# Altium footprint library RGB_Controller.PcbLib: 10 footprints
Each footprint in its own frame and in the unit in brackets; x right, y up, seen from the top. Pads: shape width x height; smd on the part's side, far side on the other; paste and mask are expansions set on the pad; w line width, h text height; cw(c..) or ccw(c..) is an arc to the next point about the centre after c.
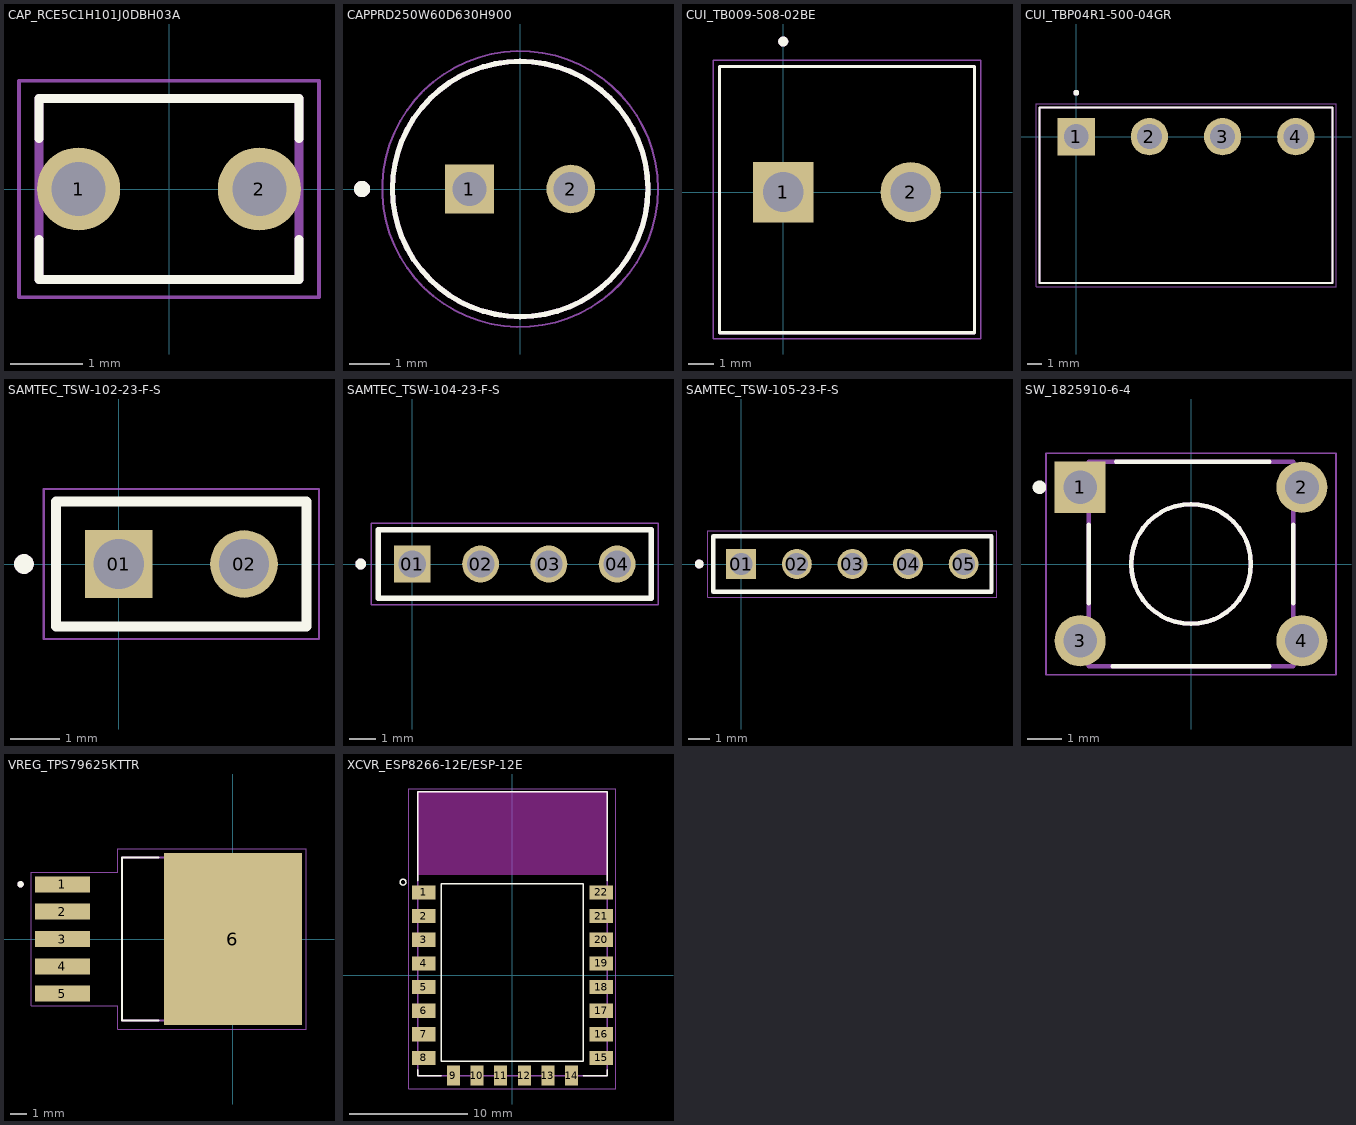
[diagram p0: the footprints below, top view; thin cyan lines are the x and y axes]

## CAP_RCE5C1H101J0DBH03A [mm]
pads (2):
  round 1.15 hole 0.75: 1(-1.25,0) 2(1.25,0)
Top Overlay:
  lines w0.127: -1.8,-0.698 -1.8,-1.25 1.8,-1.25 1.8,-0.698 ; -1.8,0.698 -1.8,1.25 1.8,1.25 1.8,0.698
Mechanical 13:
  lines w0.127: -1.8,-1.25 1.8,-1.25 1.8,1.25 -1.8,1.25 -1.8,-1.25
Mechanical 15:
  lines w0.05: -2.075,-1.5 2.075,-1.5 2.075,1.5 -2.075,1.5 -2.075,-1.5
3D body "RCE5C1H101J0DBH03A--3DModel-STEP-56544.STEP": height 5, standoff -23.5, extent -1.8,-1.397 1.8,1.103

## CAPPRD250W60D630H900 [mm]
pads (2):
  rect 1.2x1.2 hole 0.85: 1(-1.25,0)
  round 1.2 hole 0.85: 2(1.25,0)
Top Overlay:
  circle w0.127: c0,0 r3.15
  circle w0.2: c-3.9,0 r0.1
Mechanical 13:
  circle w0.127: c0,0 r3.15
  circle w0.2: c-3.9,0 r0.1
Mechanical 15:
  circle w0.05: c0,0 r3.4
3D body "step_temp.STEP": height 9, standoff -4, extent -3.15,-3.15 3.15,3.15

## CUI_TB009-508-02BE [mm]
pads (2):
  rect 2.4x2.4 / inner round 2.4 / far side rect 2.4x2.4 hole 1.6: 1(0,0)
  round 2.4 hole 1.6: 2(5.08,0)
Top Overlay:
  circle w0.2: c0,6 r0.1
  lines w0.127: -2.54,-5.6 7.62,-5.6 7.62,5 -2.54,5 -2.54,-5.6
Mechanical 13:
  circle w0.2: c0,6 r0.1
  lines w0.127: -2.54,-5.6 7.62,-5.6 7.62,5 -2.54,5 -2.54,-5.6
Mechanical 15:
  lines w0.05: -2.79,-5.85 -2.79,5.25 7.87,5.25 7.87,-5.85 -2.79,-5.85
3D body "step_temp.STEP": height 19.5, standoff -4, extent -3.14,-5.6 8.22,4.9

## CUI_TBP04R1-500-04GR [mm]
height 8.5
pads (4):
  rect 2.55x2.55 / inner round 2.55 / far side rect 2.55x2.55 hole 1.7: 1(0,0)
  round 2.55 hole 1.7: 2(5,0) 3(10,0) 4(15,0)
Top Overlay:
  circle w0.2: c0,3 r0.1
  lines w0.127: -2.5,-10 17.5,-10 17.5,2 -2.5,2 -2.5,-10
Mechanical 13:
  circle w0.2: c0,3 r0.1
  lines w0.127: -2.5,-10 17.5,-10 17.5,2 -2.5,2 -2.5,-10
Mechanical 15:
  lines w0.05: -2.75,-10.25 17.75,-10.25 17.75,2.25 -2.75,2.25 -2.75,-10.25
3D body "CUI_DEVICES_TBP04R1-500-04GR.step": height 8.52, standoff -3.98, extent -2.413,-10.064 17.587,1.936

## SAMTEC_TSW-102-23-F-S [mm]
pads (2):
  rect 1.37x1.37 hole 1.02: 01(0,0)
  round 1.37 hole 1.02: 02(2.54,0)
Top Overlay:
  circle w0.2: c-1.92,0 r0.1
  lines w0.2: -1.27,-1.27 3.81,-1.27 3.81,1.27 -1.27,1.27 -1.27,-1.27
Mechanical 13:
  circle w0.2: c-1.92,0 r0.1
  lines w0.1: -1.27,-1.27 3.81,-1.27 3.81,1.27 -1.27,1.27 -1.27,-1.27
Mechanical 15:
  lines w0.05: -1.52,-1.52 4.06,-1.52 4.06,1.52 -1.52,1.52 -1.52,-1.52
3D body "TSW-102-23-F-S_3d.stp": height 8.38, standoff -2.92, extent -1.46,-1.27 3.746,1.27

## SAMTEC_TSW-104-23-F-S [mm]
pads (4):
  rect 1.37x1.37 / inner round 1.37 / far side rect 1.37x1.37 hole 1.02: 01(0,0)
  round 1.37 hole 1.02: 02(2.54,0) 03(5.08,0) 04(7.62,0)
Top Overlay:
  circle w0.2: c-1.92,0 r0.1
  lines w0.2: -1.27,-1.27 8.89,-1.27 8.89,1.27 -1.27,1.27 -1.27,-1.27
Mechanical 13:
  circle w0.2: c-1.92,0 r0.1
  lines w0.1: -1.27,-1.27 8.89,-1.27 8.89,1.27 -1.27,1.27 -1.27,-1.27
Mechanical 15:
  lines w0.05: -1.52,-1.52 9.14,-1.52 9.14,1.52 -1.52,1.52 -1.52,-1.52
3D body "TSW-104-23-F-S_3d.stp": height 8.38, standoff -2.92, extent -1.397,-1.27 8.89,1.27

## SAMTEC_TSW-105-23-F-S [mm]
pads (5):
  rect 1.37x1.37 hole 1.02: 01(0,0)
  round 1.37 hole 1.02: 02(2.54,0) 03(5.08,0) 04(7.62,0) 05(10.16,0)
Top Overlay:
  circle w0.2: c-1.92,0 r0.1
  lines w0.2: -1.27,-1.27 11.43,-1.27 11.43,1.27 -1.27,1.27 -1.27,-1.27
Mechanical 13:
  circle w0.2: c-1.92,0 r0.1
  lines w0.1: -1.27,-1.27 11.43,-1.27 11.43,1.27 -1.27,1.27 -1.27,-1.27
Mechanical 15:
  lines w0.05: -1.52,-1.52 11.68,-1.52 11.68,1.52 -1.52,1.52 -1.52,-1.52
3D body "TSW-105-23-F-S.stp": height 8.38, standoff -2.92, extent -1.397,-1.27 11.43,1.27

## SW_1825910-6-4 [mm]
pads (4):
  rect 1.498x1.498 / inner round 1.498 / far side rect 1.498x1.498 hole 0.99: 1(-3.25,2.25)
  round 1.498 hole 0.99: 2(3.25,2.25) 3(-3.25,-2.25) 4(3.25,-2.25)
Top Overlay:
  circle w0.2: c-4.445,2.25 r0.1
  circle w0.127: c0,0 r1.755
  lines w0.127: -2.995,-1.15 -2.995,1.15 ; -2.3,-2.995 2.3,-2.995 ; -2.2,2.995 2.3,2.995 ; 3,-1.15 3,1.15
Mechanical 13:
  circle w0.127: c0,0 r1.755
  lines w0.127: -2.995,-2.995 2.995,-2.995 2.995,2.995 -2.995,2.995 -2.995,-2.995
Mechanical 15:
  lines w0.05: -4.25,-3.25 4.25,-3.25 4.25,3.25 -4.25,3.25 -4.25,-3.25
3D body "step_temp.STEP": height 5.01, standoff -3.51, extent -3.898,-2.995 3.9,2.995

## VREG_TPS79625KTTR [mm]
pads (6):
  rect 3.4x1 smd paste-0.05 mask+0.07: 1(-10.6,3.4) 2(-10.6,1.7) 3(-10.6,0) 4(-10.6,-1.7) 5(-10.6,-3.4)
  rect 8.6x10.7 smd paste-0.05 mask+0.07: 6(0,0)
Top Overlay:
  circle w0.2: c-13.2,3.4 r0.1
  lines w0.127: -4.62,-5.08 -6.905,-5.08 -6.905,5.08 -4.62,5.08
Mechanical 13:
  circle w0.2: c-13.2,3.4 r0.1
  lines w0.127: -6.905,-5.08 -6.905,5.08 2.02,5.08 2.02,-5.08 -6.905,-5.08
Mechanical 15:
  lines w0.05: -12.55,-4.15 -7.155,-4.15 -7.155,-5.6 4.55,-5.6 4.55,5.6 -7.155,5.6 -7.155,4.15 -12.55,4.15 -12.55,-4.15
3D body "step_temp.STEP": height 4.65, standoff -0.15, extent -10.858,-5.08 3.493,5.08

## XCVR_ESP8266-12E/ESP-12E [mm]
pads (22):
  rect 2x1.2 smd: 1(-7.5,7) 2(-7.5,5) 3(-7.5,3) 4(-7.5,1) 5(-7.5,-1) 6(-7.5,-3) 7(-7.5,-5) 8(-7.5,-7) 15(7.5,-7) 16(7.5,-5) 17(7.5,-3) 18(7.5,-1) 19(7.5,1) 20(7.5,3) 21(7.5,5) 22(7.5,7)
  rect 1.1x1.7 smd: 9(-5,-8.5) 10(-3,-8.5) 11(-1,-8.5) 12(1,-8.5) 13(3,-8.5) 14(5,-8.5)
Top Overlay:
  circle w0.127: c-9.25,7.875 r0.25
  lines w0.127: -8,-8 -8,-8.5 -6,-8.5 ; -8,8 -8,15.5 8,15.5 8,8 ; 6,-8.5 8,-8.5 8,-8 ; -6,-7.26 -6,7.74 6,7.74 6,-7.26 -6,-7.26
Keep-Out Layer:
  region: 8,8.51 -8.009,8.51 -8.009,15.5 8,15.5
  region: 8,8.51 -8.009,8.51 -8.009,15.5 8,15.5
Mechanical 13:
  lines w0.127: -8,-8.5 -8,15.5 8,15.5 8,-8.5 -8,-8.5
Mechanical 15:
  lines w0.05: -8.75,-9.625 -8.75,15.75 8.75,15.75 8.75,-9.625 -8.75,-9.625
3D body "step_temp.STEP": height 3, standoff 0, extent -8,-12 8,12